# Altium schematic symbol library SCH - MCU - STM32 - ST MICROELECTRONICS STM32F411R(C-E)TX LQFP64.SchLib: 1 symbol
Pins are listed as number, name and electrical type; pins without a type are passive.

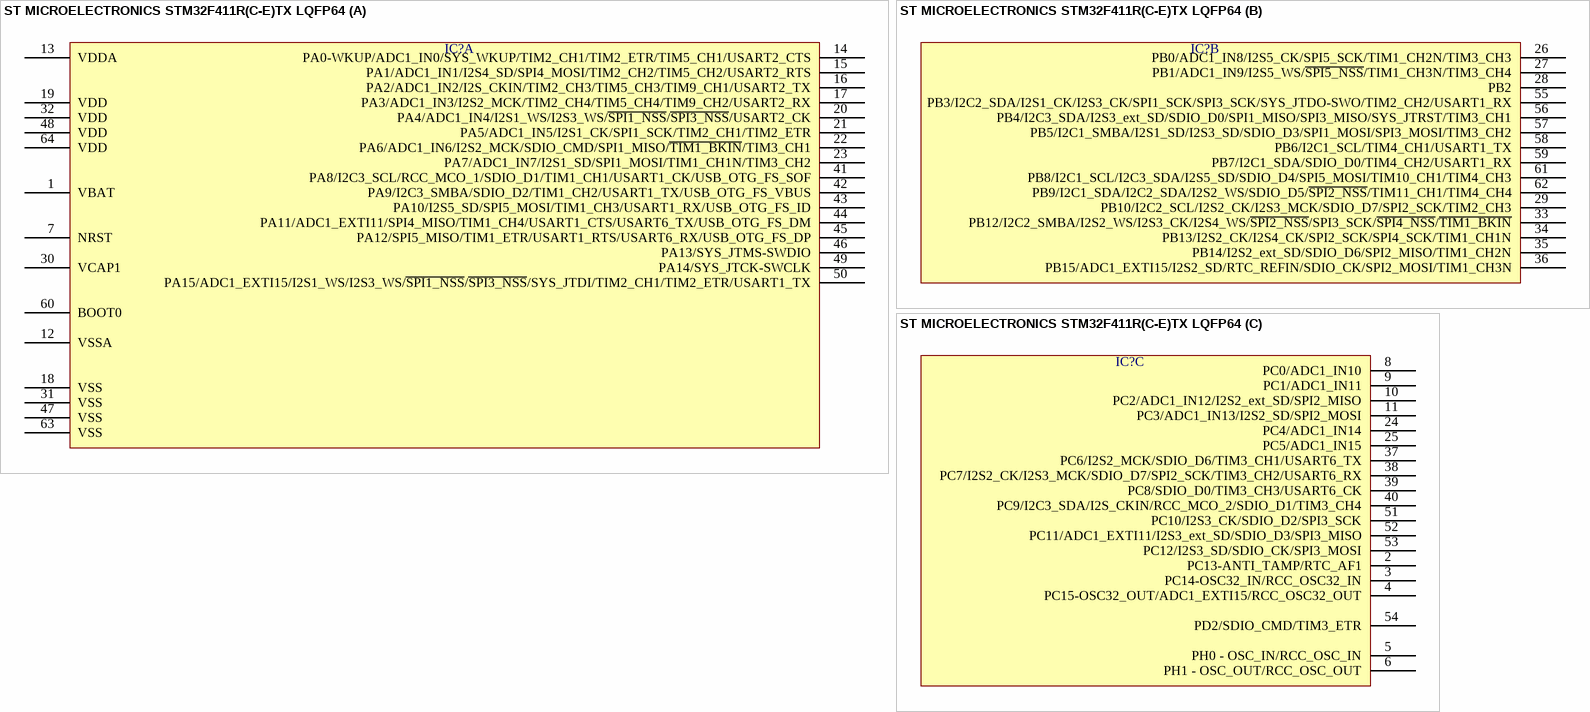
[diagram p0: symbol ST MICROELECTRONICS STM32F411R(C-E)TX LQFP64]

## ST MICROELECTRONICS STM32F411R(C-E)TX LQFP64
designator IC?  (value not drawn)
part A pins: 1 VBAT, 7 NRST, 12 VSSA, 13 VDDA, 14 PA0-WKUP/ADC1_IN0/SYS_WKUP/TIM2_CH1/TIM2_ETR/TIM5_CH1/USART2_CTS, 15 PA1/ADC1_IN1/I2S4_SD/SPI4_MOSI/TIM2_CH2/TIM5_CH2/USART2_RTS, 16 PA2/ADC1_IN2/I2S_CKIN/TIM2_CH3/TIM5_CH3/TIM9_CH1/USART2_TX, 17 PA3/ADC1_IN3/I2S2_MCK/TIM2_CH4/TIM5_CH4/TIM9_CH2/USART2_RX, 18 VSS, 19 VDD, 20 PA4/ADC1_IN4/I2S1_WS/I2S3_WS/~{SPI1_NSS}/~{SPI3_NSS}/USART2_CK, 21 PA5/ADC1_IN5/I2S1_CK/SPI1_SCK/TIM2_CH1/TIM2_ETR, 22 PA6/ADC1_IN6/I2S2_MCK/SDIO_CMD/SPI1_MISO/~{TIM1_BKIN}/TIM3_CH1, 23 PA7/ADC1_IN7/I2S1_SD/SPI1_MOSI/TIM1_CH1N/TIM3_CH2, 30 VCAP1, 31 VSS, 32 VDD, 41 PA8/I2C3_SCL/RCC_MCO_1/SDIO_D1/TIM1_CH1/USART1_CK/USB_OTG_FS_SOF, 42 PA9/I2C3_SMBA/SDIO_D2/TIM1_CH2/USART1_TX/USB_OTG_FS_VBUS, 43 PA10/I2S5_SD/SPI5_MOSI/TIM1_CH3/USART1_RX/USB_OTG_FS_ID, 44 PA11/ADC1_EXTI11/SPI4_MISO/TIM1_CH4/USART1_CTS/USART6_TX/USB_OTG_FS_DM, 45 PA12/SPI5_MISO/TIM1_ETR/USART1_RTS/USART6_RX/USB_OTG_FS_DP, 46 PA13/SYS_JTMS-SWDIO, 47 VSS, 48 VDD, 49 PA14/SYS_JTCK-SWCLK, 50 PA15/ADC1_EXTI15/I2S1_WS/I2S3_WS/~{SPI1_NSS}/~{SPI3_NSS}/SYS_JTDI/TIM2_CH1/TIM2_ETR/USART1_TX, 60 BOOT0, 63 VSS, 64 VDD
part B pins: 26 PB0/ADC1_IN8/I2S5_CK/SPI5_SCK/TIM1_CH2N/TIM3_CH3, 27 PB1/ADC1_IN9/I2S5_WS/~{SPI5_NSS}/TIM1_CH3N/TIM3_CH4, 28 PB2, 29 PB10/I2C2_SCL/I2S2_CK/I2S3_MCK/SDIO_D7/SPI2_SCK/TIM2_CH3, 33 PB12/I2C2_SMBA/I2S2_WS/I2S3_CK/I2S4_WS/~{SPI2_NSS}/SPI3_SCK/~{SPI4_NSS}/~{TIM1_BKIN}, 34 PB13/I2S2_CK/I2S4_CK/SPI2_SCK/SPI4_SCK/TIM1_CH1N, 35 PB14/I2S2_ext_SD/SDIO_D6/SPI2_MISO/TIM1_CH2N, 36 PB15/ADC1_EXTI15/I2S2_SD/RTC_REFIN/SDIO_CK/SPI2_MOSI/TIM1_CH3N, 55 PB3/I2C2_SDA/I2S1_CK/I2S3_CK/SPI1_SCK/SPI3_SCK/SYS_JTDO-SWO/TIM2_CH2/USART1_RX, 56 PB4/I2C3_SDA/I2S3_ext_SD/SDIO_D0/SPI1_MISO/SPI3_MISO/SYS_JTRST/TIM3_CH1, 57 PB5/I2C1_SMBA/I2S1_SD/I2S3_SD/SDIO_D3/SPI1_MOSI/SPI3_MOSI/TIM3_CH2, 58 PB6/I2C1_SCL/TIM4_CH1/USART1_TX, 59 PB7/I2C1_SDA/SDIO_D0/TIM4_CH2/USART1_RX, 61 PB8/I2C1_SCL/I2C3_SDA/I2S5_SD/SDIO_D4/SPI5_MOSI/TIM10_CH1/TIM4_CH3, 62 PB9/I2C1_SDA/I2C2_SDA/I2S2_WS/SDIO_D5/~{SPI2_NSS}/TIM11_CH1/TIM4_CH4
part C pins: 2 PC13-ANTI_TAMP/RTC_AF1, 3 PC14-OSC32_IN/RCC_OSC32_IN, 4 PC15-OSC32_OUT/ADC1_EXTI15/RCC_OSC32_OUT, 5 PH0 - OSC_IN/RCC_OSC_IN, 6 PH1 - OSC_OUT/RCC_OSC_OUT, 8 PC0/ADC1_IN10, 9 PC1/ADC1_IN11, 10 PC2/ADC1_IN12/I2S2_ext_SD/SPI2_MISO, 11 PC3/ADC1_IN13/I2S2_SD/SPI2_MOSI, 24 PC4/ADC1_IN14, 25 PC5/ADC1_IN15, 37 PC6/I2S2_MCK/SDIO_D6/TIM3_CH1/USART6_TX, 38 PC7/I2S2_CK/I2S3_MCK/SDIO_D7/SPI2_SCK/TIM3_CH2/USART6_RX, 39 PC8/SDIO_D0/TIM3_CH3/USART6_CK, 40 PC9/I2C3_SDA/I2S_CKIN/RCC_MCO_2/SDIO_D1/TIM3_CH4, 51 PC10/I2S3_CK/SDIO_D2/SPI3_SCK, 52 PC11/ADC1_EXTI11/I2S3_ext_SD/SDIO_D3/SPI3_MISO, 53 PC12/I2S3_SD/SDIO_CK/SPI3_MOSI, 54 PD2/SDIO_CMD/TIM3_ETR